# Altium footprint library VFQFPN-48(7.0X7.0) .PcbLib: 1 footprints
Each footprint in its own frame and in the unit in brackets; x right, y up, seen from the top. Pads: shape width x height; smd on the part's side, far side on the other; paste and mask are expansions set on the pad; w line width, h text height; cw(c..) or ccw(c..) is an arc to the next point about the centre after c.
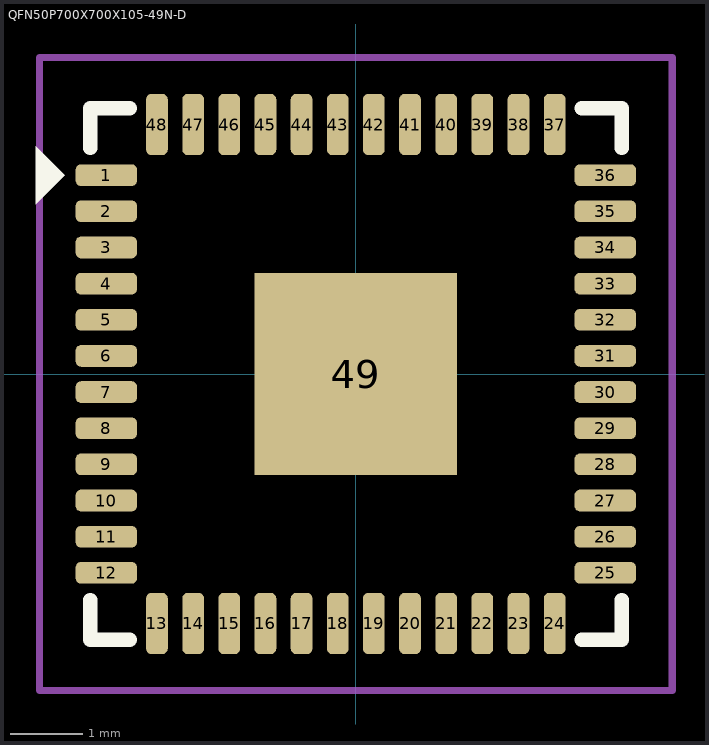
[diagram p0: the footprint, top view; thin cyan lines are the x and y axes]

## QFN50P700X700X105-49N-D [mm]
pads (49):
  rrect50% 0.85x0.3 smd: 1(-3.45,2.75) 2(-3.45,2.25) 3(-3.45,1.75) 4(-3.45,1.25) 5(-3.45,0.75) 6(-3.45,0.25) 7(-3.45,-0.25) 8(-3.45,-0.75) 9(-3.45,-1.25) 10(-3.45,-1.75) 11(-3.45,-2.25) 12(-3.45,-2.75) 25(3.45,-2.75) 26(3.45,-2.25) 27(3.45,-1.75) 28(3.45,-1.25) 29(3.45,-0.75) 30(3.45,-0.25) 31(3.45,0.25) 32(3.45,0.75) 33(3.45,1.25) 34(3.45,1.75) 35(3.45,2.25) 36(3.45,2.75)
  rrect50% 0.3x0.85 smd: 13(-2.75,-3.45) 14(-2.25,-3.45) 15(-1.75,-3.45) 16(-1.25,-3.45) 17(-0.75,-3.45) 18(-0.25,-3.45) 19(0.25,-3.45) 20(0.75,-3.45) 21(1.25,-3.45) 22(1.75,-3.45) 23(2.25,-3.45) 24(2.75,-3.45) 37(2.75,3.45) 38(2.25,3.45) 39(1.75,3.45) 40(1.25,3.45) 41(0.75,3.45) 42(0.25,3.45) 43(-0.25,3.45) 44(-0.75,3.45) 45(-1.25,3.45) 46(-1.75,3.45) 47(-2.25,3.45) 48(-2.75,3.45)
  rect 2.8x2.8 smd: 49(0,0)
Top Overlay:
  region: -4.425,2.35 -4.425,3.15 -4.025,2.75
  lines w0.2: -3.675,-3.125 -3.675,-3.675 -3.125,-3.675 ; -3.675,3.125 -3.675,3.675 -3.125,3.675 ; 3.125,-3.675 3.675,-3.675 3.675,-3.125 ; 3.125,3.675 3.675,3.675 3.675,3.125
Top Courtyard:
  lines w0.1: -4.375,-4.375 -4.375,4.375 4.375,4.375 4.375,-4.375 -4.375,-4.375
3D body "STSPIN32G0A2.stp": height 1.05, standoff 0, extent -3.55,-3.55 3.55,3.55